# Altium footprint library Angle-Sensor.PcbLib: 8 footprints
Each footprint in its own frame and in the unit in brackets; x right, y up, seen from the top. Pads: shape width x height; smd on the part's side, far side on the other; paste and mask are expansions set on the pad; w line width, h text height; cw(c..) or ccw(c..) is an arc to the next point about the centre after c.
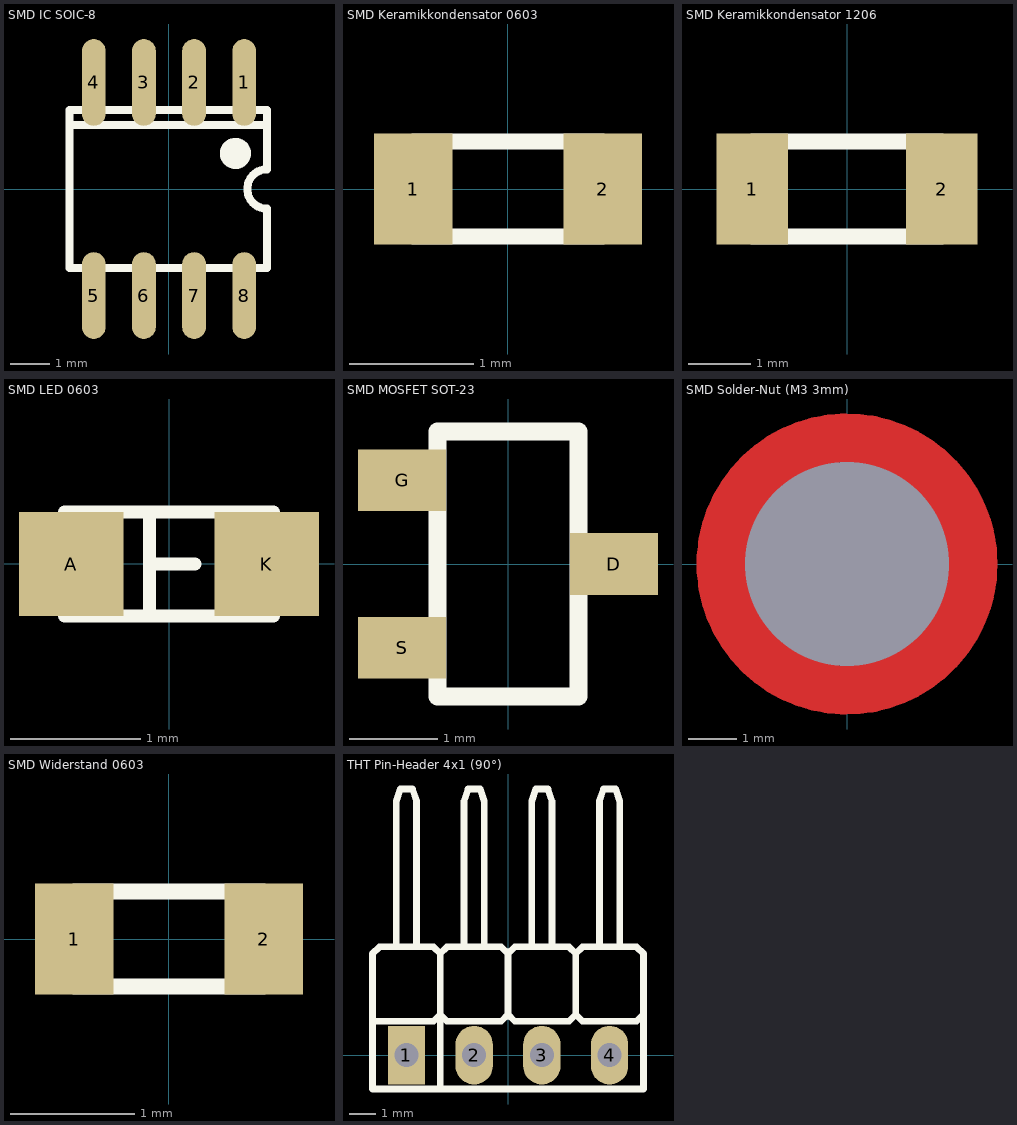
[diagram p0: the footprints below, top view; thin cyan lines are the x and y axes]

## SMD IC SOIC-8 [mm]
height 1.7
pads (8):
  oval 0.6x2.2 smd: 1(1.905,2.7) 2(0.635,2.7) 3(-0.635,2.7) 4(-1.905,2.7) 5(-1.905,-2.7) 6(-0.635,-2.7) 7(0.635,-2.7) 8(1.905,-2.7)
Top Overlay:
  circle w0.406: c1.683,0.9 r0.191
  lines w0.2: -2.517,1.625 2.483,1.625 ; 2.483,-2 -2.517,-2 -2.517,2 2.483,2
  lines w0.203: 2.483,-2 2.483,-0.5 cw(c2.483,0) 2.483,0.5 2.483,2
3D body "User Library-SO-8-1.step": height 1.75, standoff 0, extent -2.517,-3.122 2.483,3.122

## SMD Keramikkondensator 0603 [mil]
height 66.93
pads (2):
  rect 25x35 smd: 1(-30,0) 2(30,0)
Top Overlay:
  lines w5: -30,-15 -30,15 30,15 30,-15 -30,-15
3D body "User Library-0603_Cap.STEP": height 31.69, standoff 0, extent -31.49,-15.74 31.5,15.75

## SMD Keramikkondensator 1206 [mil]
pads (2):
  rect 45x70 smd: 1(-60,0) 2(60,0)
Top Overlay:
  lines w10: -60,-30 60,-30 60,30 -60,30 -60,-30
3D body "User Library-1206 SMD Capacitor.step": height 39.45, standoff 0, extent -62.98,-31.49 63,31.51

## SMD LED 0603 [mm] "SMD_LED_RED"
height 8.65
pads (2):
  rect 0.8x0.8 smd: A(-0.75,0) K(0.75,0)
Top Overlay:
  lines w0.1: -0.15,-0.4 -0.15,0.4 ; -0.15,0 0.2,0 ; -0.8,-0.4 -0.8,0.4 0.8,0.4 0.8,-0.4 -0.8,-0.4
3D body "User Library-LED SMD0603.step": height 0.68, standoff 0, extent -0.808,-0.368 0.842,0.357

## SMD MOSFET SOT-23 [mm]
pads (3):
  rect 1x0.7 smd: D(1.2,0) G(-1.2,0.95) S(-1.2,-0.95)
Top Overlay:
  lines w0.203: -0.8,-1.5 -0.8,1.5 0.8,1.5 0.8,-1.5 -0.8,-1.5
3D body "CircuitWorks-SOT-23.step": height 1.1, standoff 0, extent -1.301,-1.5 1.199,1.5

## SMD Solder-Nut (M3 3mm) [mm]
pads (1):
  round 0 hole 4.22: 1(0,0)
Top Layer:
  circle w1.02: c0,0 r2.61
Top Paste:
  region: -1.904,0.908 -1.82,1.067 -1.613,1.36 -1.36,1.613 -1.067,1.82 -0.908,1.904 -1.291,2.829 -1.545,2.714 -2.002,2.396 -2.396,2.002 -2.714,1.545 -2.829,1.291
  region: 0.704,1.989 0.533,2.042 0.179,2.102 -0.179,2.102 -0.533,2.042 -0.704,1.989 -1.087,2.914 -0.826,3.011 -0.278,3.11 0.278,3.11 0.826,3.011 1.087,2.914
  region: -0.908,-1.904 -1.067,-1.82 -1.36,-1.613 -1.613,-1.36 -1.82,-1.067 -1.904,-0.908 -2.829,-1.291 -2.714,-1.545 -2.396,-2.002 -2.002,-2.396 -1.545,-2.714 -1.291,-2.829
  region: -1.989,0.704 -2.042,0.533 -2.102,0.179 -2.102,-0.179 -2.042,-0.533 -1.989,-0.704 -2.914,-1.087 -3.011,-0.826 -3.11,-0.278 -3.11,0.278 -3.011,0.826 -2.914,1.087
  region: 1.904,-0.908 1.82,-1.067 1.613,-1.36 1.36,-1.613 1.067,-1.82 0.908,-1.904 1.291,-2.829 1.545,-2.714 2.002,-2.396 2.396,-2.002 2.714,-1.545 2.829,-1.291
  region: -0.704,-1.989 -0.533,-2.042 -0.179,-2.102 0.179,-2.102 0.533,-2.042 0.704,-1.989 1.087,-2.914 0.826,-3.011 0.278,-3.11 -0.278,-3.11 -0.826,-3.011 -1.087,-2.914
  region: 0.908,1.904 1.067,1.82 1.36,1.613 1.613,1.36 1.82,1.067 1.904,0.908 2.829,1.291 2.714,1.545 2.396,2.002 2.002,2.396 1.545,2.714 1.291,2.829
  region: 1.989,-0.704 2.042,-0.533 2.102,-0.179 2.102,0.179 2.042,0.533 1.989,0.704 2.914,1.087 3.011,0.826 3.11,0.278 3.11,-0.278 3.011,-0.826 2.914,-1.087
Top Solder:
  circle w1.102: c0,0 r2.661
3D body "SMTSO3030CTJ.x_t": height 3, standoff -1.53, extent -2.606,-2.606 2.606,2.606

## SMD Widerstand 0603 [mil]
height 66.93
pads (2):
  rect 25x35 smd: 1(-30,0) 2(30,0)
Top Overlay:
  lines w5: -30,-15 -30,15 30,15 30,-15 -30,-15
3D body "User Library-Panasonic0603.step": height 17.72, standoff 0, extent -31.5,-16.14 31.5,16.14

## THT Pin-Header 4x1 (90°) [mm]
pads (4):
  rect 1.4x2.2 hole 0.9: 1(-3.81,0)
  oval 1.4x2.2 hole 0.9: 2(-1.27,0) 3(1.27,0) 4(3.81,0)
Top Overlay:
  lines w0.254: -4.191,4.064 -4.191,9.525 -4.039,9.982 -3.81,9.982 -3.581,9.982 -3.429,9.525 -3.429,4.064 ; -2.54,-1.27 -2.54,1.27 ; -1.651,4.064 -1.651,9.525 -1.499,9.982 -1.27,9.982 -1.041,9.982 -0.889,9.525 -0.889,4.064 ; 0.889,4.064 0.889,9.525 1.041,9.982 1.27,9.982 1.499,9.982 1.651,9.525 1.651,4.064 ; 3.429,4.064 3.429,9.525 3.581,9.982 3.81,9.982 4.039,9.982 4.191,9.525 4.191,4.064 ; -5.08,1.27 -2.794,1.27 -2.54,1.524 ; -5.08,1.27 -5.08,3.81 -4.826,4.064 -2.794,4.064 -2.54,3.81 ; -5.08,1.27 -5.08,-1.27 5.08,-1.27 5.08,1.524 ; -2.54,1.524 -2.54,3.81 ; -2.54,1.524 -2.286,1.27 -0.254,1.27 0,1.524 ; -2.54,1.524 -2.54,3.81 ; -2.54,3.81 -2.286,4.064 -0.254,4.064 0,3.81 ; 0,1.524 0,3.81 ; 0,1.524 0.254,1.27 2.286,1.27 2.54,1.524 ; 0,1.524 0,3.81 ; 0,3.81 0.254,4.064 2.286,4.064 2.54,3.81 ; 2.54,1.524 2.54,3.81 ; 2.54,1.524 2.794,1.27 4.826,1.27 5.08,1.524 ; 2.54,1.524 2.54,3.81 ; 2.54,3.81 2.794,4.064 4.826,4.064 5.08,3.81 5.08,1.524
3D body "User Library-Header90-1.x_b": height 2.54, standoff -3, extent 2.54,-0.381 5.08,9.979
3D body "User Library-Header90-1.x_b": height 2.54, standoff -3, extent 0,-0.381 2.54,9.979
3D body "User Library-Header90-1.x_b": height 2.54, standoff -3, extent -2.54,-0.381 0,9.979
3D body "User Library-Header90-1.x_b": height 2.54, standoff -3, extent -5.08,-0.381 -2.54,9.979